# EAGLE library part HCPL7100 (library optocoupler)
HEWLETT PACKARD OPTO COUPLER
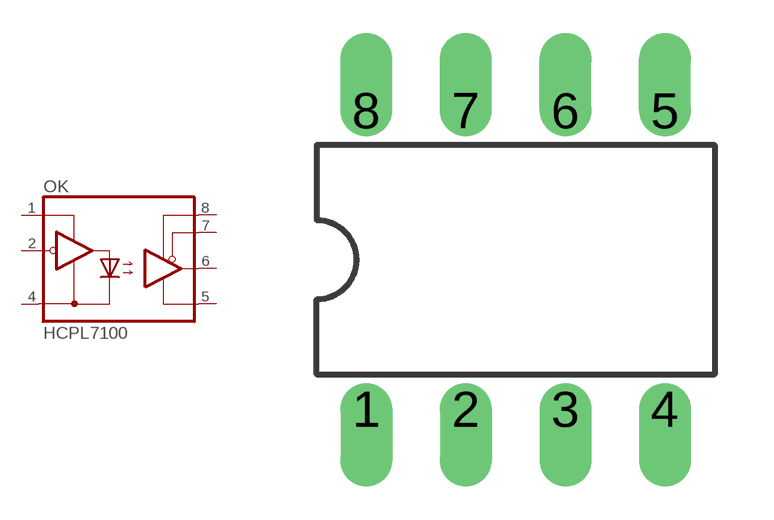
[diagram p37: symbol with the pads of DIL08; footprint DIL08]

Designator prefix OK

## HCPL7100  [DIL08]
1  VDD1  pas
2  VI  pas
4  GND1  pas
5  GND2  pas
6  VO  pas
7  VE  pas
8  VDD2  pas

## Footprint DIL08 (pad centres in mm)
Dual In Line Package
drill 0.813 offset: 1 -3.81,-3.81; 2 -1.27,-3.81; 3 1.27,-3.81; 4 3.81,-3.81; 5 3.81,3.81; 6 1.27,3.81; 7 -1.27,3.81; 8 -3.81,3.81